# EAGLE library part DMN601DMK (library jesse)
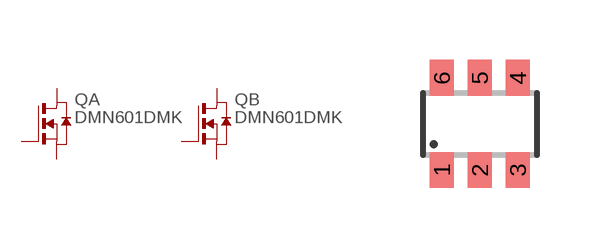
[diagram p1: symbol with the pads of SOT23-6; footprint SOT23-6]

Designator prefix Q; gates A=NMOSFET B=NMOSFET

## DMN601DMK  [SOT23-6]
1  B:S  pas
2  B:G  pas
3  A:D  pas
4  A:S  pas
5  A:G  pas
6  B:D  pas

## Footprint SOT23-6 (pad centres in mm)
smd 0.6 x 0.9: 1 -0.95,-1.15; 2 0,-1.15; 3 0.95,-1.15; 4 0.95,1.15; 5 0,1.15; 6 -0.95,1.15